# Altium integrated library 6N138.IntLib: 1 symbol
Pins are listed as number, name and electrical type; pins without a type are passive.

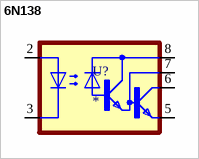
[diagram p0: symbol 6N138]

## 6N138
designator U?
ATT.NUM.P_TOT: 100 mW; Enclosure type (semiconductors): DIP 8; Forward current I(F): 20 mA; Forward voltage U(F): 1.1 V; Forward voltage U(F) typ.: 1.1 V; Insulation voltage: 5000 V RMS; Manufacturer: Lite-On; Manufacturer code (components): LTO; Mounting; MF: Isocom Components; MP: 6N138; SnapEDA_Link: https://www.snapeda.com/parts/6N138/Isocom/view-part/?ref=snap; Package: DIP-8 Lite-On; Value: *; Check_prices: https://www.snapeda.com/parts/6N138/Isocom/view-part/?ref=eda
footprint DIP762W50P254L1018H450Q8
pins: 2 A, 3 C, 5 GND, 6 VO, 7 VB, 8 VCC